# Altium schematic symbol library gps.SchLib: 3 symbols
Pins are listed as number, name and electrical type; pins without a type are passive.

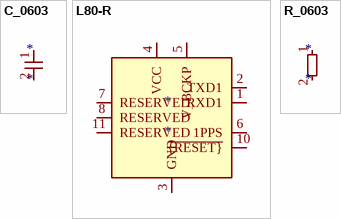
[diagram p0: symbols C_0603 to R_0603]

## C_0603
designator *
pins: 1, 2

## L80-R
designator *
pins: 1 RXD1, 2 TXD1, 3 GND, 4 VCC, 5 V_BCKP, 6 1PPS, 7 RESERVED, 8 RESERVED, 9 NC hidden, 10 ~{{RESET}}, 11 RESERVED, 12 GND hidden

## R_0603
designator *
pins: 1, 2